# EAGLE library part 93LC56BT-I/OT (library 93LC56B)
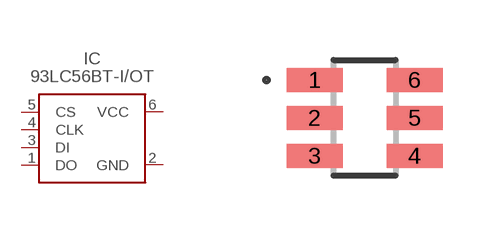
[diagram p0: symbol with the pads of SOT-23-6; footprint SOT-23-6]

Designator prefix IC

## 93LC56BT-I/OT  [SOT-23-6]
1  DO
2  GND
3  DI
4  CLK
5  CS
6  VCC

## Footprint SOT-23-6 (pad centres in mm)
smd 1.4 x 0.6: 1 -1.25,0.95; 2 -1.25,0; 3 -1.25,-0.95; 4 1.25,-0.95; 5 1.25,0; 6 1.25,0.95